# Altium integrated library Altium Database Library V2.IntLib: 722 symbols (part 33 of 35)

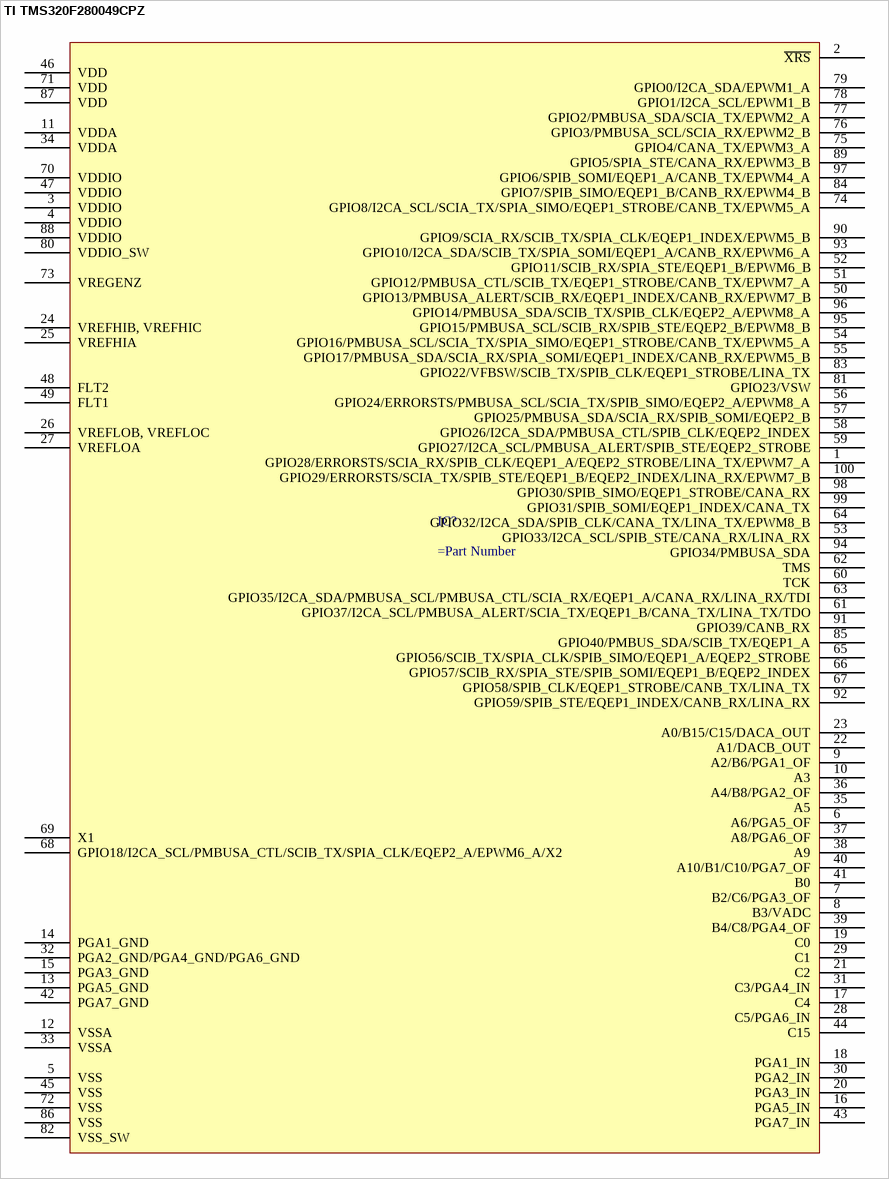
[diagram p663: symbol TI TMS320F280049CPZ]

## TI TMS320F280049CPZ
designator IC?
pins: 1 GPIO28/ERRORSTS/SCIA_RX/SPIB_CLK/EQEP1_A/EQEP2_STROBE/LINA_TX/EPWM7_A, 2 ~{XRS}, 3 VDDIO, 4 VDDIO, 5 VSS, 6 A6/PGA5_OF, 7 B2/C6/PGA3_OF, 8 B3/VADC, 9 A2/B6/PGA1_OF, 10 A3, 11 VDDA, 12 VSSA, 13 PGA5_GND, 14 PGA1_GND, 15 PGA3_GND, 16 PGA5_IN, 17 C4, 18 PGA1_IN, 19 C0, 20 PGA3_IN, 21 C2, 22 A1/DACB_OUT, 23 A0/B15/C15/DACA_OUT, 24 VREFHIB, VREFHIC, 25 VREFHIA, 26 VREFLOB, VREFLOC, 27 VREFLOA, 28 C5/PGA6_IN, 29 C1, 30 PGA2_IN, 31 C3/PGA4_IN, 32 PGA2_GND/PGA4_GND/PGA6_GND, 33 VSSA, 34 VDDA, 35 A5, 36 A4/B8/PGA2_OF, 37 A8/PGA6_OF, 38 A9, 39 B4/C8/PGA4_OF, 40 A10/B1/C10/PGA7_OF, 41 B0, 42 PGA7_GND, 43 PGA7_IN, 44 C15, 45 VSS, 46 VDD, 47 VDDIO, 48 FLT2, 49 FLT1, 50 GPIO13/PMBUSA_ALERT/SCIB_RX/EQEP1_INDEX/CANB_RX/EPWM7_B, 51 GPIO12/PMBUSA_CTL/SCIB_TX/EQEP1_STROBE/CANB_TX/EPWM7_A, 52 GPIO11/SCIB_RX/SPIA_STE/EQEP1_B/EPWM6_B, 53 GPIO33/I2CA_SCL/SPIB_STE/CANA_RX/LINA_RX, 54 GPIO16/PMBUSA_SCL/SCIA_TX/SPIA_SIMO/EQEP1_STROBE/CANB_TX/EPWM5_A, 55 GPIO17/PMBUSA_SDA/SCIA_RX/SPIA_SOMI/EQEP1_INDEX/CANB_RX/EPWM5_B, 56 GPIO24/ERRORSTS/PMBUSA_SCL/SCIA_TX/SPIB_SIMO/EQEP2_A/EPWM8_A, 57 GPIO25/PMBUSA_SDA/SCIA_RX/SPIB_SOMI/EQEP2_B, 58 GPIO26/I2CA_SDA/PMBUSA_CTL/SPIB_CLK/EQEP2_INDEX, 59 GPIO27/I2CA_SCL/PMBUSA_ALERT/SPIB_STE/EQEP2_STROBE, 60 TCK, 61 GPIO37/I2CA_SCL/PMBUSA_ALERT/SCIA_TX/EQEP1_B/CANA_TX/LINA_TX/TDO, 62 TMS, 63 GPIO35/I2CA_SDA/PMBUSA_SCL/PMBUSA_CTL/SCIA_RX/EQEP1_A/CANA_RX/LINA_RX/TDI, 64 GPIO32/I2CA_SDA/SPIB_CLK/CANA_TX/LINA_TX/EPWM8_B, 65 GPIO56/SCIB_TX/SPIA_CLK/SPIB_SIMO/EQEP1_A/EQEP2_STROBE, 66 GPIO57/SCIB_RX/SPIA_STE/SPIB_SOMI/EQEP1_B/EQEP2_INDEX, 67 GPIO58/SPIB_CLK/EQEP1_STROBE/CANB_TX/LINA_TX, 68 GPIO18/I2CA_SCL/PMBUSA_CTL/SCIB_TX/SPIA_CLK/EQEP2_A/EPWM6_A/X2, 69 X1, 70 VDDIO, 71 VDD, 72 VSS, 73 VREGENZ, 74 GPIO8/I2CA_SCL/SCIA_TX/SPIA_SIMO/EQEP1_STROBE/CANB_TX/EPWM5_A, 75 GPIO4/CANA_TX/EPWM3_A, 76 GPIO3/PMBUSA_SCL/SCIA_RX/EPWM2_B, 77 GPIO2/PMBUSA_SDA/SCIA_TX/EPWM2_A, 78 GPIO1/I2CA_SCL/EPWM1_B, 79 GPIO0/I2CA_SDA/EPWM1_A, 80 VDDIO_SW, 81 GPIO23/VSW, 82 VSS_SW, 83 GPIO22/VFBSW/SCIB_TX/SPIB_CLK/EQEP1_STROBE/LINA_TX, 84 GPIO7/SPIB_SIMO/EQEP1_B/CANB_RX/EPWM4_B, 85 GPIO40/PMBUS_SDA/SCIB_TX/EQEP1_A, 86 VSS, 87 VDD, 88 VDDIO, 89 GPIO5/SPIA_STE/CANA_RX/EPWM3_B, 90 GPIO9/SCIA_RX/SCIB_TX/SPIA_CLK/EQEP1_INDEX/EPWM5_B, 91 GPIO39/CANB_RX, 92 GPIO59/SPIB_STE/EQEP1_INDEX/CANB_RX/LINA_RX, 93 GPIO10/I2CA_SDA/SCIB_TX/SPIA_SOMI/EQEP1_A/CANB_RX/EPWM6_A, 94 GPIO34/PMBUSA_SDA, 95 GPIO15/PMBUSA_SCL/SCIB_RX/SPIB_STE/EQEP2_B/EPWM8_B, 96 GPIO14/PMBUSA_SDA/SCIB_TX/SPIB_CLK/EQEP2_A/EPWM8_A, 97 GPIO6/SPIB_SOMI/EQEP1_A/CANB_TX/EPWM4_A, 98 GPIO30/SPIB_SIMO/EQEP1_STROBE/CANA_RX, 99 GPIO31/SPIB_SOMI/EQEP1_INDEX/CANA_TX, 100 GPIO29/ERRORSTS/SCIA_TX/SPIB_STE/EQEP1_B/EQEP2_INDEX/LINA_RX/EPWM7_B


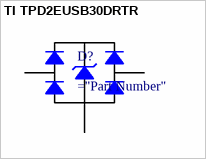
[diagram p664: symbol TI TPD2EUSB30DRTR]

## TI TPD2EUSB30DRTR
designator D?
Rectifier Diode
pins: 1 D+, 2 D-, 3 GND


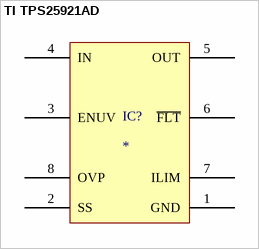
[diagram p665: symbol TI TPS25921AD]

## TI TPS25921AD
designator IC?
pins: 1 GND, 2 SS, 3 ENUV, 4 IN, 5 OUT, 6 ~{FLT}, 7 ILIM, 8 OVP


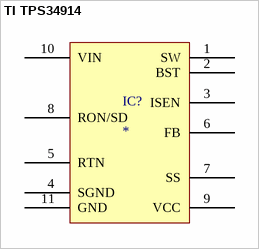
[diagram p666: symbol TI TPS34914]

## TI TPS34914
designator IC?
pins: 1 SW, 2 BST, 3 ISEN, 4 SGND, 5 RTN, 6 FB, 7 SS, 8 RON/SD, 9 VCC, 10 VIN, 11 GND


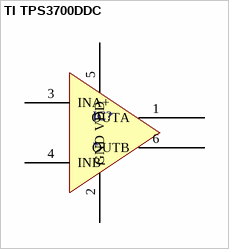
[diagram p667: symbol TI TPS3700DDC]

## TI TPS3700DDC
designator IC?
pins: 1 OUTA, 2 GND, 3 INA+, 4 INB-, 5 VDD, 6 OUTB


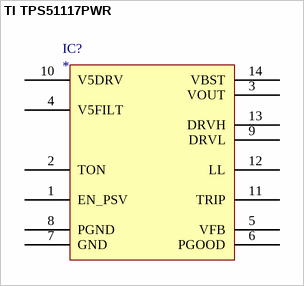
[diagram p668: symbol TI TPS51117PWR]

## TI TPS51117PWR
designator IC?
pins: 1 EN_PSV, 2 TON, 3 VOUT, 4 V5FILT (power), 5 VFB, 6 PGOOD, 7 GND (power), 8 PGND (power), 9 DRVL, 10 V5DRV (power), 11 TRIP, 12 LL, 13 DRVH, 14 VBST


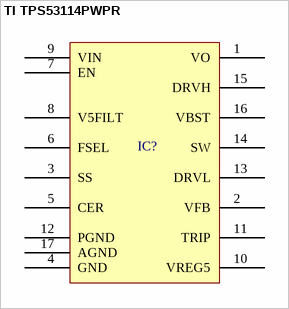
[diagram p669: symbol TI TPS53114PWPR]

## TI TPS53114PWPR
designator IC?
pins: 1 VO, 2 VFB, 3 SS, 4 GND, 5 CER, 6 FSEL, 7 EN, 8 V5FILT, 9 VIN, 10 VREG5, 11 TRIP, 12 PGND, 13 DRVL, 14 SW, 15 DRVH, 16 VBST, 17 AGND


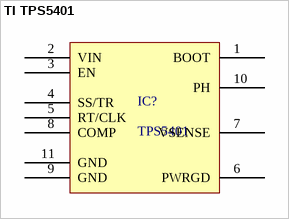
[diagram p670: symbol TI TPS5401]

## TI TPS5401
designator IC?, comment TPS5401
Buck Step Down Regulator with 3.5 to 42 V Input and 0.8 to 39 V Output
pins: 1 BOOT "A bootstrap capacitor is required between BOOT and PH. If the voltage on this capacitor is below the minimum required by the output device, the output is forced to switch off until the capacitor is refreshed.", 2 VIN (power) "Input supply voltage, 3.5 V to 42 V.", 3 EN "Enable pin, internal pullup current source. Pull below 1.2 V to disable. Float to enable. Adjust the input undervoltage lockout with two resistors.", 4 SS/TR "Slow-start and tracking. An external capacitor connected to this pin sets the output rise time. Because the voltage on this pin overrides the internal reference, it can be used for tracking and sequencing.", 5 RT/CLK "Resistor timing and external clock. An internal amplifier holds this pin at a fixed voltage when using an external resistor to ground to set the switching frequency. If the pin is pulled above the PLL upper threshold, a mode (See Datasheet)", 6 PWRGD (oc) "An open-drain output; asserts low if output voltage is low due to thermal shutdown, dropout, overvoltage or EN shutdown.", 7 VSENSE "Inverting node of the transconductance (gm) error amplifier.", 8 COMP "Error amplifier output, and input to the output switch current comparator. Connect frequency compensation components to this pin.", 9 GND (power) "Ground", 10 PH (power) "The source of the internal high-side power MOSFET", 11 GND (power) "GND pin must be electrically connected to the thermal pad on the printed circuit board for proper operation."


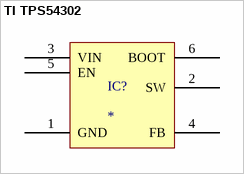
[diagram p671: symbol TI TPS54302]

## TI TPS54302
designator IC?
pins: 1 GND, 2 SW, 3 VIN, 4 FB, 5 EN, 6 BOOT


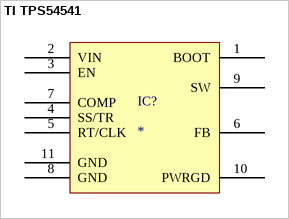
[diagram p672: symbol TI TPS54541]

## TI TPS54541
designator IC?
Buck, Split Rail Switching Regulator IC Positive Adjustable 0.8V 1 Output 5A 10-WDFN Exposed Pad
pins: 1 BOOT "A bootstrap capacitor is required between BOOT and PH. If the voltage on this capacitor is below the minimum required by the output device, the output is forced to switch off until the capacitor is refreshed.", 2 VIN (power) "Input supply voltage, 3.5 V to 42 V.", 3 EN "Enable pin, internal pullup current source. Pull below 1.2 V to disable. Float to enable. Adjust the input undervoltage lockout with two resistors.", 4 SS/TR "Slow-start and tracking. An external capacitor connected to this pin sets the output rise time. Because the voltage on this pin overrides the internal reference, it can be used for tracking and sequencing.", 5 RT/CLK "Resistor timing and external clock. An internal amplifier holds this pin at a fixed voltage when using an external resistor to ground to set the switching frequency. If the pin is pulled above the PLL upper threshold, a mode (See Datasheet)", 6 FB "Inverting node of the transconductance (gm) error amplifier.", 7 COMP "Error amplifier output, and input to the output switch current comparator. Connect frequency compensation components to this pin.", 8 GND (power) "Ground", 9 SW (power) "The source of the internal high-side power MOSFET", 10 PWRGD (oc) "An open-drain output; asserts low if output voltage is low due to thermal shutdown, dropout, overvoltage or EN shutdown.", 11 GND (power) "GND pin must be electrically connected to the thermal pad on the printed circuit board for proper operation."


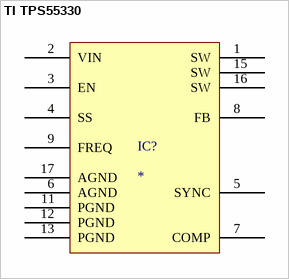
[diagram p673: symbol TI TPS55330]

## TI TPS55330
designator IC?
pins: 1 SW, 2 VIN, 3 EN, 4 SS, 5 SYNC, 6 AGND, 7 COMP, 8 FB, 9 FREQ, 11 PGND, 12 PGND, 13 PGND, 15 SW, 16 SW, 17 AGND


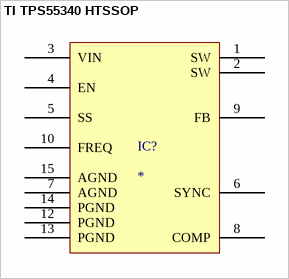
[diagram p674: symbol TI TPS55340 HTSSOP]

## TI TPS55340 HTSSOP
designator IC?
pins: 1 SW, 2 SW, 3 VIN, 4 EN, 5 SS, 6 SYNC, 7 AGND, 8 COMP, 9 FB, 10 FREQ, 12 PGND, 13 PGND, 14 PGND, 15 AGND


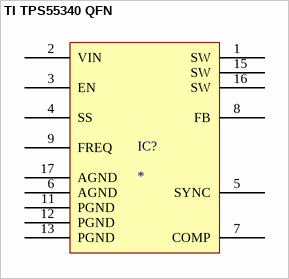
[diagram p675: symbol TI TPS55340 QFN]

## TI TPS55340 QFN
designator IC?
pins: 1 SW, 2 VIN, 3 EN, 4 SS, 5 SYNC, 6 AGND, 7 COMP, 8 FB, 9 FREQ, 11 PGND, 12 PGND, 13 PGND, 15 SW, 16 SW, 17 AGND


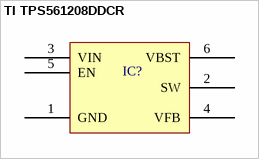
[diagram p676: symbol TI TPS561208DDCR]

## TI TPS561208DDCR
designator IC?
pins: 1 GND, 2 SW, 3 VIN, 4 VFB, 5 EN, 6 VBST


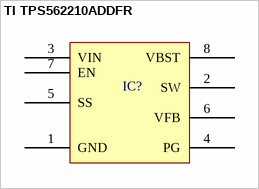
[diagram p677: symbol TI TPS562210ADDFR]

## TI TPS562210ADDFR
designator IC?
pins: 1 GND, 2 SW, 3 VIN, 4 PG, 5 SS, 6 VFB, 7 EN, 8 VBST


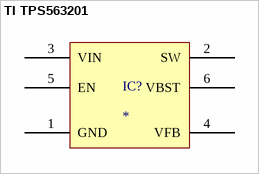
[diagram p678: symbol TI TPS563201]

## TI TPS563201
designator IC?
pins: 1 GND, 2 SW, 3 VIN, 4 VFB, 5 EN, 6 VBST


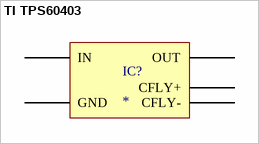
[diagram p679: symbol TI TPS60403]

## TI TPS60403
designator IC?
pins: 1 OUT, 2 IN, 3 CFLY-, 4 GND, 5 CFLY+


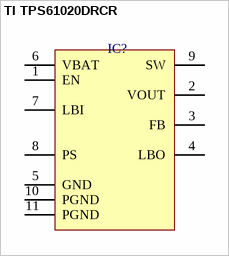
[diagram p680: symbol TI TPS61020DRCR]

## TI TPS61020DRCR
designator IC?
pins: 1 EN, 2 VOUT, 3 FB, 4 LBO, 5 GND, 6 VBAT, 7 LBI, 8 PS, 9 SW, 10 PGND, 11 PGND


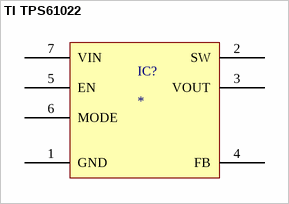
[diagram p681: symbol TI TPS61022]

## TI TPS61022
designator IC?
pins: 1 GND, 2 SW, 3 VOUT, 4 FB, 5 EN, 6 MODE, 7 VIN


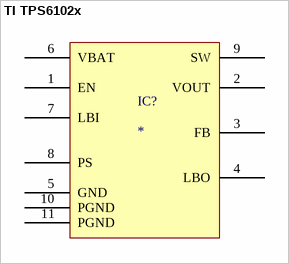
[diagram p682: symbol TI TPS6102x]

## TI TPS6102x
designator IC?
pins: 1 EN, 2 VOUT, 3 FB, 4 LBO, 5 GND, 6 VBAT, 7 LBI, 8 PS, 9 SW, 10 PGND, 11 PGND


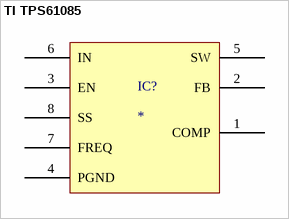
[diagram p683: symbol TI TPS61085]

## TI TPS61085
designator IC?
pins: 1 COMP, 2 FB, 3 EN, 4 PGND, 5 SW, 6 IN, 7 FREQ, 8 SS


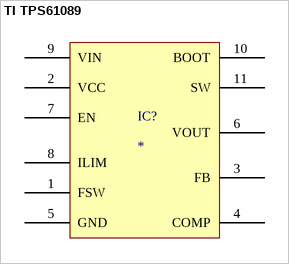
[diagram p684: symbol TI TPS61089]

## TI TPS61089
designator IC?
pins: 1 FSW, 2 VCC, 3 FB, 4 COMP, 5 GND, 6 VOUT, 7 EN, 8 ILIM, 9 VIN, 10 BOOT, 11 SW


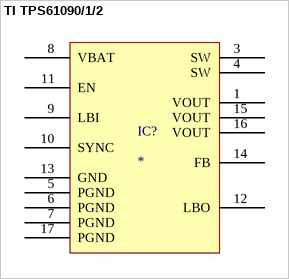
[diagram p685: symbol TI TPS61090/1/2]

## TI TPS61090/1/2
designator IC?
pins: 1 VOUT, 3 SW, 4 SW, 5 PGND, 6 PGND, 7 PGND, 8 VBAT, 9 LBI, 10 SYNC, 11 EN, 12 LBO, 13 GND, 14 FB, 15 VOUT, 16 VOUT, 17 PGND
